# EAGLE library part LINEAR_TECHNOLOGY_LTC1980EGN#PBF (library Upverter Library)
LT-LTC1980-GN-24
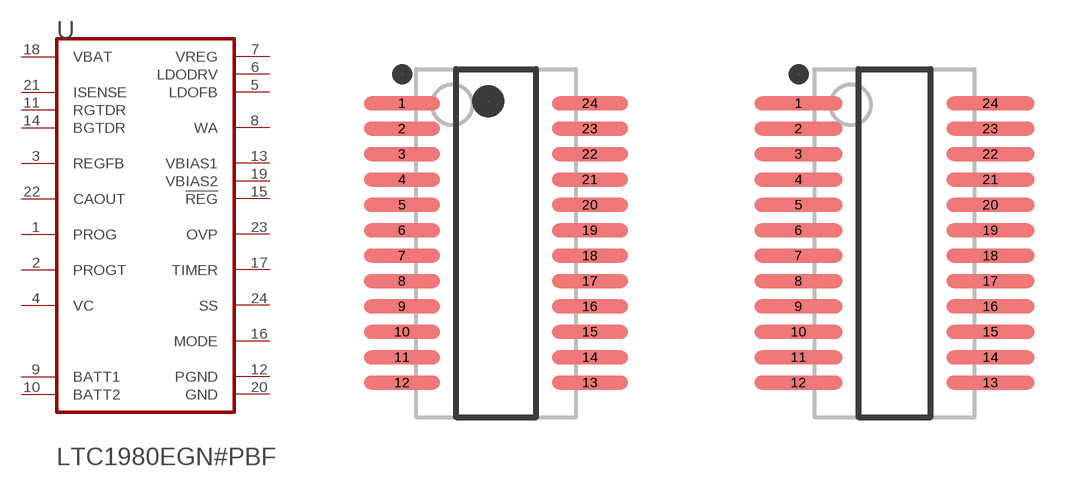
[diagram p0: symbol with the pads of LINEAR_TECHNOLOGY_LTC1980EGN#PBF_0; footprints LINEAR_TECHNOLOGY_LTC1980EGN#PBF_0, LINEAR_TECHNOLOGY_LTC1980EGN#PBF_1]

Designator prefix U

## LINEAR_TECHNOLOGY_LTC1980EGN#PBFLINEAR_TECHNOLOGY_LTC1980EGN#PBF_0_0 (Battery_Chemistry: Li-Ion, Li-Polymer, NiCd, NiMH, Lead Acid; Charge_Termination: On-board timer; Component_Link_1_Description: Manufacturer URL; Component_Link_1_URL: http://www.linear.com/; Component_Link_3_Description: Package Specification; Component_Link_3_URL: http://cds.linear.com/docs/en/packaging/05081641_B_GN24.pdf; Float_Voltage: Adj; MF: Linear Technology; MPN: LTC1980EGN#PBF; Max_Charge_CurrentA: 2; Mounting_Technology: Surface Mount; Package_Description: 24-Pin Plastic SSOP , Body 8.5 x 3.9 mm, Pitch 0.635 mm; Package_Version: Rev. B, 03/2012; Type_of_Charger: Switching, Buck-Boost; Vin_MaxV: 12; Vin_MinV: 4.1; ciiva_ids: 961051; datasheet: http://cds.linear.com/docs/en/datasheet/1980f.pdf; footprint_variant_name_0: Level C; footprint_variant_name_1: Level B; footprint_variant_name_2: Level A; import_ts: 1521848429; imported: yes; imported_from: vault; package: GN24; prefix: U; release_date: 1377779313; rohs: Yes; vault_guid: 086940CF-4D8C-4590-AA09-86A8FB9CF015; vault_revision: F6FDECA7-6CEC-4612-8791-CB1FD188D69E)  [LINEAR_TECHNOLOGY_LTC1980EGN#PBF_0]
1  PROG  in
2  PROGT  in
3  REGFB  in
4  VC  pas
5  LDOFB  in
6  LDODRV  out
7  VREG  pwr
8  WA  in
9  BATT1  in
10  BATT2  in
11  RGTDR  out
12  PGND  pwr
13  VBIAS1  pwr
14  BGTDR  out
15  !REG!  in
16  MODE  in
17  TIMER  in
18  VBAT  pwr
19  VBIAS2  pwr
20  GND  pwr
21  ISENSE  in
22  CAOUT  out
23  OVP  in
24  SS  in

## LINEAR_TECHNOLOGY_LTC1980EGN#PBFLINEAR_TECHNOLOGY_LTC1980EGN#PBF_0_1 (Battery_Chemistry: Li-Ion, Li-Polymer, NiCd, NiMH, Lead Acid; Charge_Termination: On-board timer; Component_Link_1_Description: Manufacturer URL; Component_Link_1_URL: http://www.linear.com/; Component_Link_3_Description: Package Specification; Component_Link_3_URL: http://cds.linear.com/docs/en/packaging/05081641_B_GN24.pdf; Float_Voltage: Adj; MF: Linear Technology; MPN: LTC1980EGN#PBF; Max_Charge_CurrentA: 2; Mounting_Technology: Surface Mount; Package_Description: 24-Pin Plastic SSOP , Body 8.5 x 3.9 mm, Pitch 0.635 mm; Package_Version: Rev. B, 03/2012; Type_of_Charger: Switching, Buck-Boost; Vin_MaxV: 12; Vin_MinV: 4.1; ciiva_ids: 961051; datasheet: http://cds.linear.com/docs/en/datasheet/1980f.pdf; footprint_variant_name_0: Level C; footprint_variant_name_1: Level B; footprint_variant_name_2: Level A; import_ts: 1521848429; imported: yes; imported_from: vault; package: GN24; prefix: U; release_date: 1377779313; rohs: Yes; vault_guid: 086940CF-4D8C-4590-AA09-86A8FB9CF015; vault_revision: F6FDECA7-6CEC-4612-8791-CB1FD188D69E)  [LINEAR_TECHNOLOGY_LTC1980EGN#PBF_1]
Pads as for LINEAR_TECHNOLOGY_LTC1980EGN#PBF_0

## LINEAR_TECHNOLOGY_LTC1980EGN#PBFLINEAR_TECHNOLOGY_LTC1980EGN#PBF_0_2 (Battery_Chemistry: Li-Ion, Li-Polymer, NiCd, NiMH, Lead Acid; Charge_Termination: On-board timer; Component_Link_1_Description: Manufacturer URL; Component_Link_1_URL: http://www.linear.com/; Component_Link_3_Description: Package Specification; Component_Link_3_URL: http://cds.linear.com/docs/en/packaging/05081641_B_GN24.pdf; Float_Voltage: Adj; MF: Linear Technology; MPN: LTC1980EGN#PBF; Max_Charge_CurrentA: 2; Mounting_Technology: Surface Mount; Package_Description: 24-Pin Plastic SSOP , Body 8.5 x 3.9 mm, Pitch 0.635 mm; Package_Version: Rev. B, 03/2012; Type_of_Charger: Switching, Buck-Boost; Vin_MaxV: 12; Vin_MinV: 4.1; ciiva_ids: 961051; datasheet: http://cds.linear.com/docs/en/datasheet/1980f.pdf; footprint_variant_name_0: Level C; footprint_variant_name_1: Level B; footprint_variant_name_2: Level A; import_ts: 1521848429; imported: yes; imported_from: vault; package: GN24; prefix: U; release_date: 1377779313; rohs: Yes; vault_guid: 086940CF-4D8C-4590-AA09-86A8FB9CF015; vault_revision: F6FDECA7-6CEC-4612-8791-CB1FD188D69E)  [LINEAR_TECHNOLOGY_LTC1980EGN#PBF_2]
Pads as for LINEAR_TECHNOLOGY_LTC1980EGN#PBF_0

## Footprint LINEAR_TECHNOLOGY_LTC1980EGN#PBF_0 (pad centres in mm)
LT-LTC1980-GN-24
smd 1.9 x 0.35: 1 -2.35,3.492; 2 -2.35,2.857; 3 -2.35,2.222; 4 -2.35,1.587; 5 -2.35,0.952; 6 -2.35,0.317; 7 -2.35,-0.318; 8 -2.35,-0.952; 9 -2.35,-1.587; 10 -2.35,-2.222; 11 -2.35,-2.857; 12 -2.35,-3.492; 13 2.35,-3.492; 14 2.35,-2.857; 15 2.35,-2.222; 16 2.35,-1.587; 17 2.35,-0.952; 18 2.35,-0.318; 19 2.35,0.317; 20 2.35,0.952; 21 2.35,1.587; 22 2.35,2.222; 23 2.35,2.857; 24 2.35,3.492

## Footprint LINEAR_TECHNOLOGY_LTC1980EGN#PBF_1 (pad centres in mm)
LT-LTC1980-GN-24
smd 2.2 x 0.35: 1 -2.4,3.492; 2 -2.4,2.857; 3 -2.4,2.222; 4 -2.4,1.587; 5 -2.4,0.952; 6 -2.4,0.317; 7 -2.4,-0.318; 8 -2.4,-0.952; 9 -2.4,-1.587; 10 -2.4,-2.222; 11 -2.4,-2.857; 12 -2.4,-3.492; 13 2.4,-3.492; 14 2.4,-2.857; 15 2.4,-2.222; 16 2.4,-1.587; 17 2.4,-0.952; 18 2.4,-0.318; 19 2.4,0.317; 20 2.4,0.952; 21 2.4,1.587; 22 2.4,2.222; 23 2.4,2.857; 24 2.4,3.492

## Footprint LINEAR_TECHNOLOGY_LTC1980EGN#PBF_2 (pad centres in mm)
LT-LTC1980-GN-24
smd 2.5 x 0.35: 1 -2.45,3.492; 2 -2.45,2.857; 3 -2.45,2.222; 4 -2.45,1.587; 5 -2.45,0.952; 6 -2.45,0.317; 7 -2.45,-0.318; 8 -2.45,-0.952; 9 -2.45,-1.587; 10 -2.45,-2.222; 11 -2.45,-2.857; 12 -2.45,-3.492; 13 2.45,-3.492; 14 2.45,-2.857; 15 2.45,-2.222; 16 2.45,-1.587; 17 2.45,-0.952; 18 2.45,-0.318; 19 2.45,0.317; 20 2.45,0.952; 21 2.45,1.587; 22 2.45,2.222; 23 2.45,2.857; 24 2.45,3.492